# Altium schematic symbol library ESP32-C6-WROOM-1-N8.SchLib: 1 symbol
Pins are listed as number, name and electrical type; pins without a type are passive.

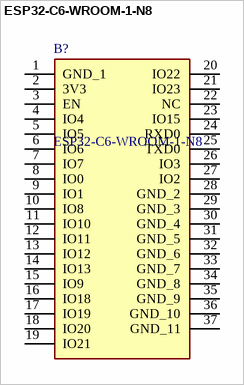
[diagram p0: symbol ESP32-C6-WROOM-1-N8]

## ESP32-C6-WROOM-1-N8
designator B?
802.15.4, Bluetooth, WiFi Bluetooth v5.0, Zigbee Transceiver Module 2.4GHz PCB Trace Surface Mount; Manufacturer_Name: Espressif Systems; Geometry.Height: 3.25mm; Mouser Part Number: 356-ESP32C6WROOM1N8; Mouser Price/Stock: https://www.mouser.co.uk/ProductDetail/Espressif-Systems/ESP32-C6-WROOM-1-N8?qs=8Wlm6%252BaMh8ST02Gmwp74cw%3D%3D; Manufacturer_Part_Number: ESP32-C6-WROOM-1-N8; Datasheet Link: https://www.espressif.com/sites/default/files/documentation/esp32-c6-wroom-1_datasheet_en.pdf
footprint ESP32C6WROOM1N8
pins: 1 GND_1, 2 3V3, 3 EN, 4 IO4, 5 IO5, 6 IO6, 7 IO7, 8 IO0, 9 IO1, 10 IO8, 11 IO10, 12 IO11, 13 IO12, 14 IO13, 15 IO9, 16 IO18, 17 IO19, 18 IO20, 19 IO21, 20 IO22, 21 IO23, 22 NC, 23 IO15, 24 RXD0, 25 TXD0, 26 IO3, 27 IO2, 28 GND_2, 29 GND_3, 30 GND_4, 31 GND_5, 32 GND_6, 33 GND_7, 34 GND_8, 35 GND_9, 36 GND_10, 37 GND_11